# EAGLE library part LMDPARTS_SP3002 (library mini-v1.14-macrofab-rtg)
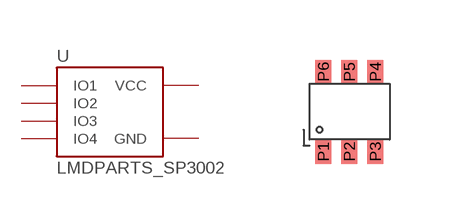
[diagram p2: symbol with the pads of LMDPARTS_SC70-6; footprint LMDPARTS_SC70-6]

Designator prefix -

## LMDPARTS_SP3002  [LMDPARTS_SC70-6]
P1  IO1
P2  GND  pwr
P3  IO2
P4  IO3
P5  VCC  pwr
P6  IO4

## Footprint LMDPARTS_SC70-6 (pad centres in mm)
smd 0.4 x 0.6: P1 -0.65,-1; P2 0,-1; P3 0.65,-1; P4 0.65,1; P5 0,1; P6 -0.65,1